# Altium schematic symbol library ADS1298IPAGR.SchLib: 2 symbols
Pins are listed as number, name and electrical type; pins without a type are passive.

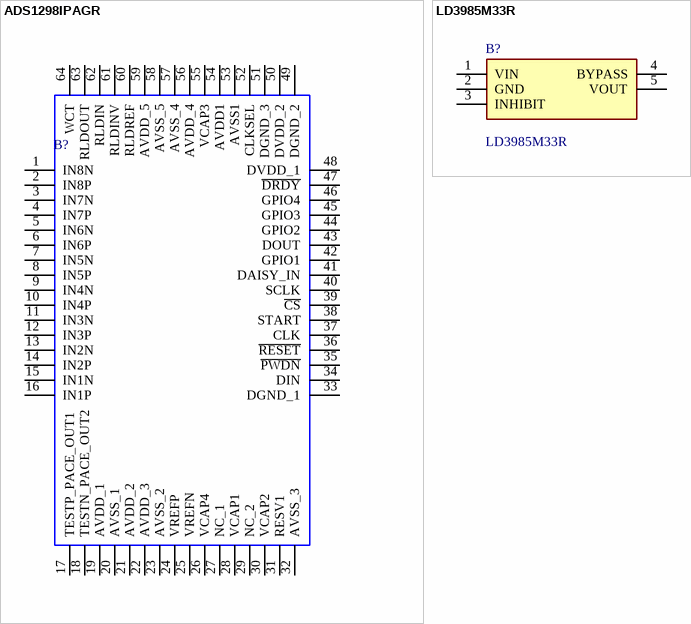
[diagram p0: symbols ADS1298IPAGR to LD3985M33R]

## ADS1298IPAGR
designator B?
8-Channel 24-bit ADC With Integrated ECG Front End; Manufacturer_Name: Texas Instruments; Geometry.Height: 1.2mm; Mouser Part Number: 595-ADS1298IPAGR; Mouser Price/Stock: https://www.mouser.co.uk/ProductDetail/Texas-Instruments/ADS1298IPAGR?qs=Z6FgPJT5dDSzK7JhuKfPmw%3D%3D; Manufacturer_Part_Number: ADS1298IPAGR; Datasheet Link: http://www.ti.com/lit/ds/symlink/ads1294.pdf
footprint QFP50P1200X1200X120-64N
pins: 1 IN8N, 2 IN8P, 3 IN7N, 4 IN7P, 5 IN6N, 6 IN6P, 7 IN5N, 8 IN5P, 9 IN4N, 10 IN4P, 11 IN3N, 12 IN3P, 13 IN2N, 14 IN2P, 15 IN1N, 16 IN1P, 17 TESTP_PACE_OUT1, 18 TESTN_PACE_OUT2, 19 AVDD_1, 20 AVSS_1, 21 AVDD_2, 22 AVDD_3, 23 AVSS_2, 24 VREFP, 25 VREFN, 26 VCAP4, 27 NC_1, 28 VCAP1, 29 NC_2, 30 VCAP2, 31 RESV1, 32 AVSS_3, 33 DGND_1, 34 DIN, 35 ~{PWDN}, 36 ~{RESET}, 37 CLK, 38 START, 39 ~{CS}, 40 SCLK, 41 DAISY_IN, 42 GPIO1, 43 DOUT, 44 GPIO2, 45 GPIO3, 46 GPIO4, 47 ~{DRDY}, 48 DVDD_1, 49 DGND_2, 50 DVDD_2, 51 DGND_3, 52 CLKSEL, 53 AVSS1, 54 AVDD1, 55 VCAP3, 56 AVDD_4, 57 AVSS_4, 58 AVSS_5, 59 AVDD_5, 60 RLDREF, 61 RLDINV, 62 RLDIN, 63 RLDOUT, 64 WCT

## LD3985M33R
designator B?
LD3985M33R, Low Dropout Voltage Regulator, 0.55A, 3.3V +/-2%, 2.5 to 6Vin, 5-Pin SOT-23; Manufacturer_Name: STMicroelectronics; Geometry.Height: 1.45mm; Manufacturer_Part_Number: LD3985M33R; Mouser Part Number: 511-LD3985M33R; Mouser Price/Stock: https://www.mouser.co.uk/ProductDetail/STMicroelectronics/LD3985M33R?qs=22WmWNTp1rrPOccVv4HZ7A%3D%3D; Arrow Part Number: LD3985M33R; Arrow Price/Stock: https://www.arrow.com/en/products/ld3985m33r/stmicroelectronics?region=europe; Datasheet Link: http://www.st.com/st-web-ui/static/active/en/resource/technical/document/datasheet/CD00003395.pdf
footprint SOT95P280X145-5N
pins: 1 VIN, 2 GND, 3 INHIBIT, 4 BYPASS, 5 VOUT